# Altium footprint library PcbLib1.PcbLib: 7 footprints
Each footprint in its own frame and in the unit in brackets; x right, y up, seen from the top. Pads: shape width x height; smd on the part's side, far side on the other; paste and mask are expansions set on the pad; w line width, h text height; cw(c..) or ccw(c..) is an arc to the next point about the centre after c.
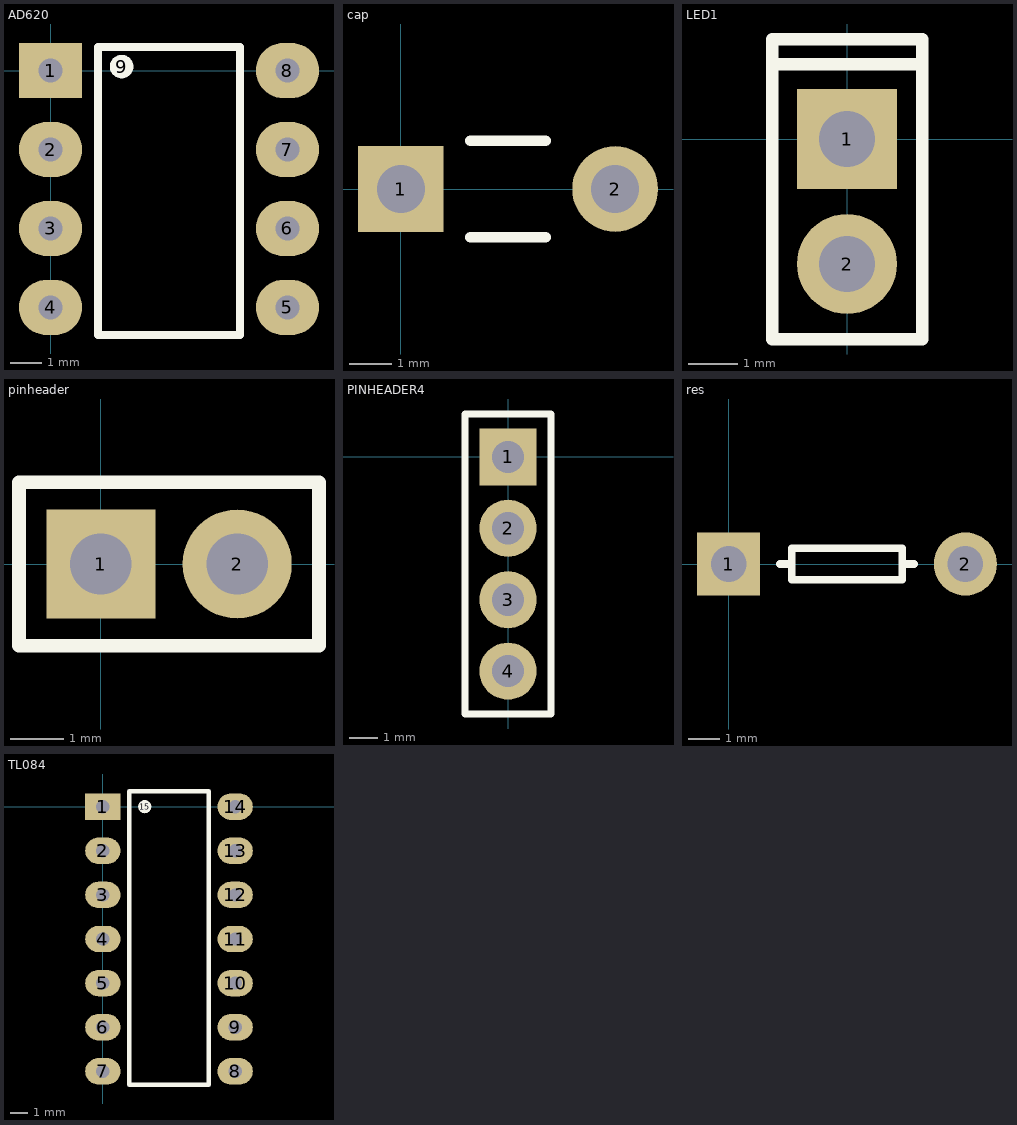
[diagram p0: the footprints below, top view; thin cyan lines are the x and y axes]

## AD620 [mil]
pads (9):
  rect 80x70 hole 30: 1(0,0)
  oval 80x70 hole 30: 2(0,-100) 3(0,-200) 4(0,-300) 5(300,-300) 6(300,-200) 7(300,-100) 8(300,0)
  round 30 on Top Overlay: 9(90,5)
Top Overlay:
  lines w10: 60,-335 60,30 240,30 240,-335 60,-335

## cap [mil]
pads (2):
  rect 80x80 hole 45: 1(0,0)
  round 80 hole 45: 2(200,0)
Top Overlay:
  lines w10: 65,-45 135,-45 ; 65,45 135,45

## LED1 [mil]
pads (2):
  rect 80x80 hole 45: 1(0,0)
  round 80 hole 45: 2(0,-100)
Top Overlay:
  lines w10: -60,60 -60,80 60,80 60,60 ; -60,60 60,60 ; -60,60 -60,-160 60,-160 60,60

## pinheader [mil]
pads (2):
  rect 80x80 hole 45: 1(0,0)
  round 80 hole 45: 2(100,0)
Top Overlay:
  lines w10: -60,-60 -60,60 160,60 160,-60 -60,-60

## PINHEADER4 [mil]
pads (4):
  rect 80x80 hole 45: 1(0,0)
  round 80 hole 45: 2(0,-100) 3(0,-200) 4(0,-300)
Top Overlay:
  lines w10: -60,-360 60,-360 60,60 -60,60 -60,-360

## res [mil]
pads (2):
  rect 80x80 hole 45: 1(0,0)
  round 80 hole 45: 2(300,0)
Top Overlay:
  lines w10: 65,0 80,0 ; 235,0 220,0 ; 80,-20 80,20 ; 80,-20 220,-20 220,0 ; 80,-20 80,0 ; 80,0 80,20 ; 80,20 220,20 220,0

## TL084 [mil]
pads (15):
  rect 80x60 hole 30: 1(0,0)
  oval 80x60 hole 30: 2(0,-100) 3(0,-200) 4(0,-300) 5(0,-400) 6(0,-500) 7(0,-600) 8(300,-600) 9(300,-500) 10(300,-400) 11(300,-300) 12(300,-200) 13(300,-100) 14(300,0)
  round 30 on Top Overlay: 15(95,0)
Top Overlay:
  lines w10: 60,-630 240,-630 240,35 60,35 60,-630